# EAGLE library part LM3492 (library My_TI)
LM3492 Two-Channel Individual Dimmable LED Driver with Boost Converter and Fast Current Regulator. Very Wide Input Voltage Ranged from 4.5V-65V. Programmable Soft-start. Nearly Constant Switching Frequency Programmable from 200 kHz to 1 MHz. Datasheet <http://www.ti.com/lit/ds/symlink/lm3492.pdf>
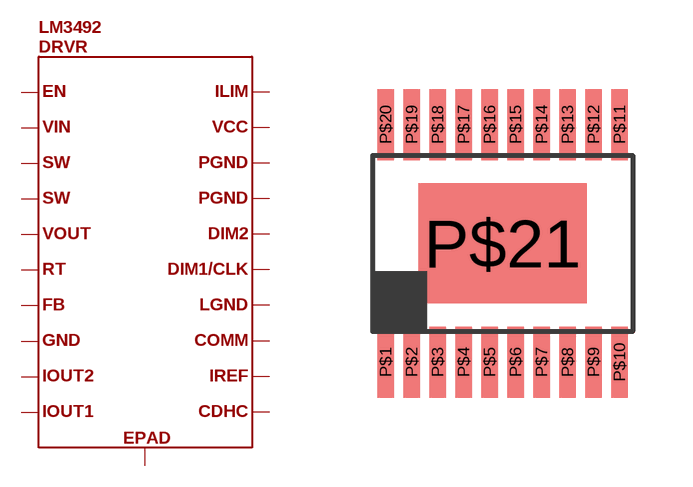
[diagram p39: symbol with the pads of HTSSOP-20; footprint HTSSOP-20]

Designator prefix DRVR

## LM3492  [HTSSOP-20]
P$1  P$1
P$2  P$2
P$3  P$3
P$4  P$4
P$5  P$5
P$6  P$6
P$7  P$7
P$8  P$8
P$9  P$9
P$10  P$10
P$11  P$11
P$12  P$12
P$13  P$13
P$14  P$14
P$15  P$15
P$16  P$16
P$17  P$17
P$18  P$18
P$19  P$19
P$20  P$20
P$21  P$21

## Footprint HTSSOP-20 (pad centres in mm)
smd 0.42 x 1.78: P$1 -2.925,-2.97; P$2 -2.275,-2.97; P$3 -1.625,-2.97; P$4 -0.975,-2.97; P$5 -0.325,-2.97; P$6 0.325,-2.97; P$7 0.975,-2.97; P$8 1.625,-2.97; P$9 2.275,-2.97; P$10 2.925,-2.97; P$11 2.925,2.97; P$12 2.275,2.97; P$13 1.625,2.97; P$14 0.975,2.97; P$15 0.325,2.97; P$16 -0.325,2.97; P$17 -0.975,2.97; P$18 -1.625,2.97; P$19 -2.275,2.97; P$20 -2.925,2.97
smd 4.2 x 3: P$21 0,0